# EAGLE library part FONA_MINI_GSM (library Eagle_UOF_Lib)
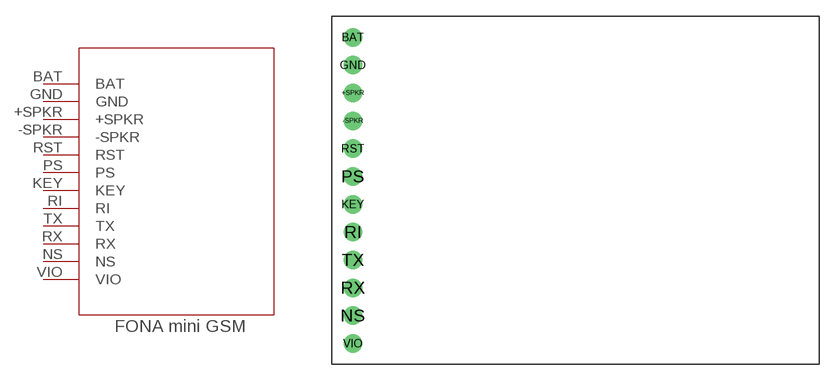
[diagram p7: symbol with the pads of FONA_MINI_GSM; footprint FONA_MINI_GSM]

Designator prefix -

## FONA_MINI_GSM  [FONA_MINI_GSM]
+SPKR  +SPKR  out
-SPKR  -SPKR  out
BAT  BAT  pwr
GND  GND  pwr
KEY  KEY  in
NS  NS  out
PS  PS  out
RI  RI  out
RST  RST  in
RX  RX  in
TX  TX  out
VIO  VIO  in

## Footprint FONA_MINI_GSM (pad centres in mm)
drill 0.8 pad 1.676: +SPKR 1.905,24.765; -SPKR 1.905,22.225; BAT 1.905,29.845; GND 1.905,27.305; KEY 1.905,14.605; NS 1.905,4.445; PS 1.905,17.145; RI 1.905,12.065; RST 1.905,19.685; RX 1.905,6.985; TX 1.905,9.525; VIO 1.905,1.905